# Altium footprint library LD_EDFA.PcbLib: 280 footprints (part 7 of 18)
Each footprint in its own frame and in the unit in brackets; x right, y up, seen from the top. Pads: shape width x height; smd on the part's side, far side on the other; paste and mask are expansions set on the pad; w line width, h text height; cw(c..) or ccw(c..) is an arc to the next point about the centre after c.
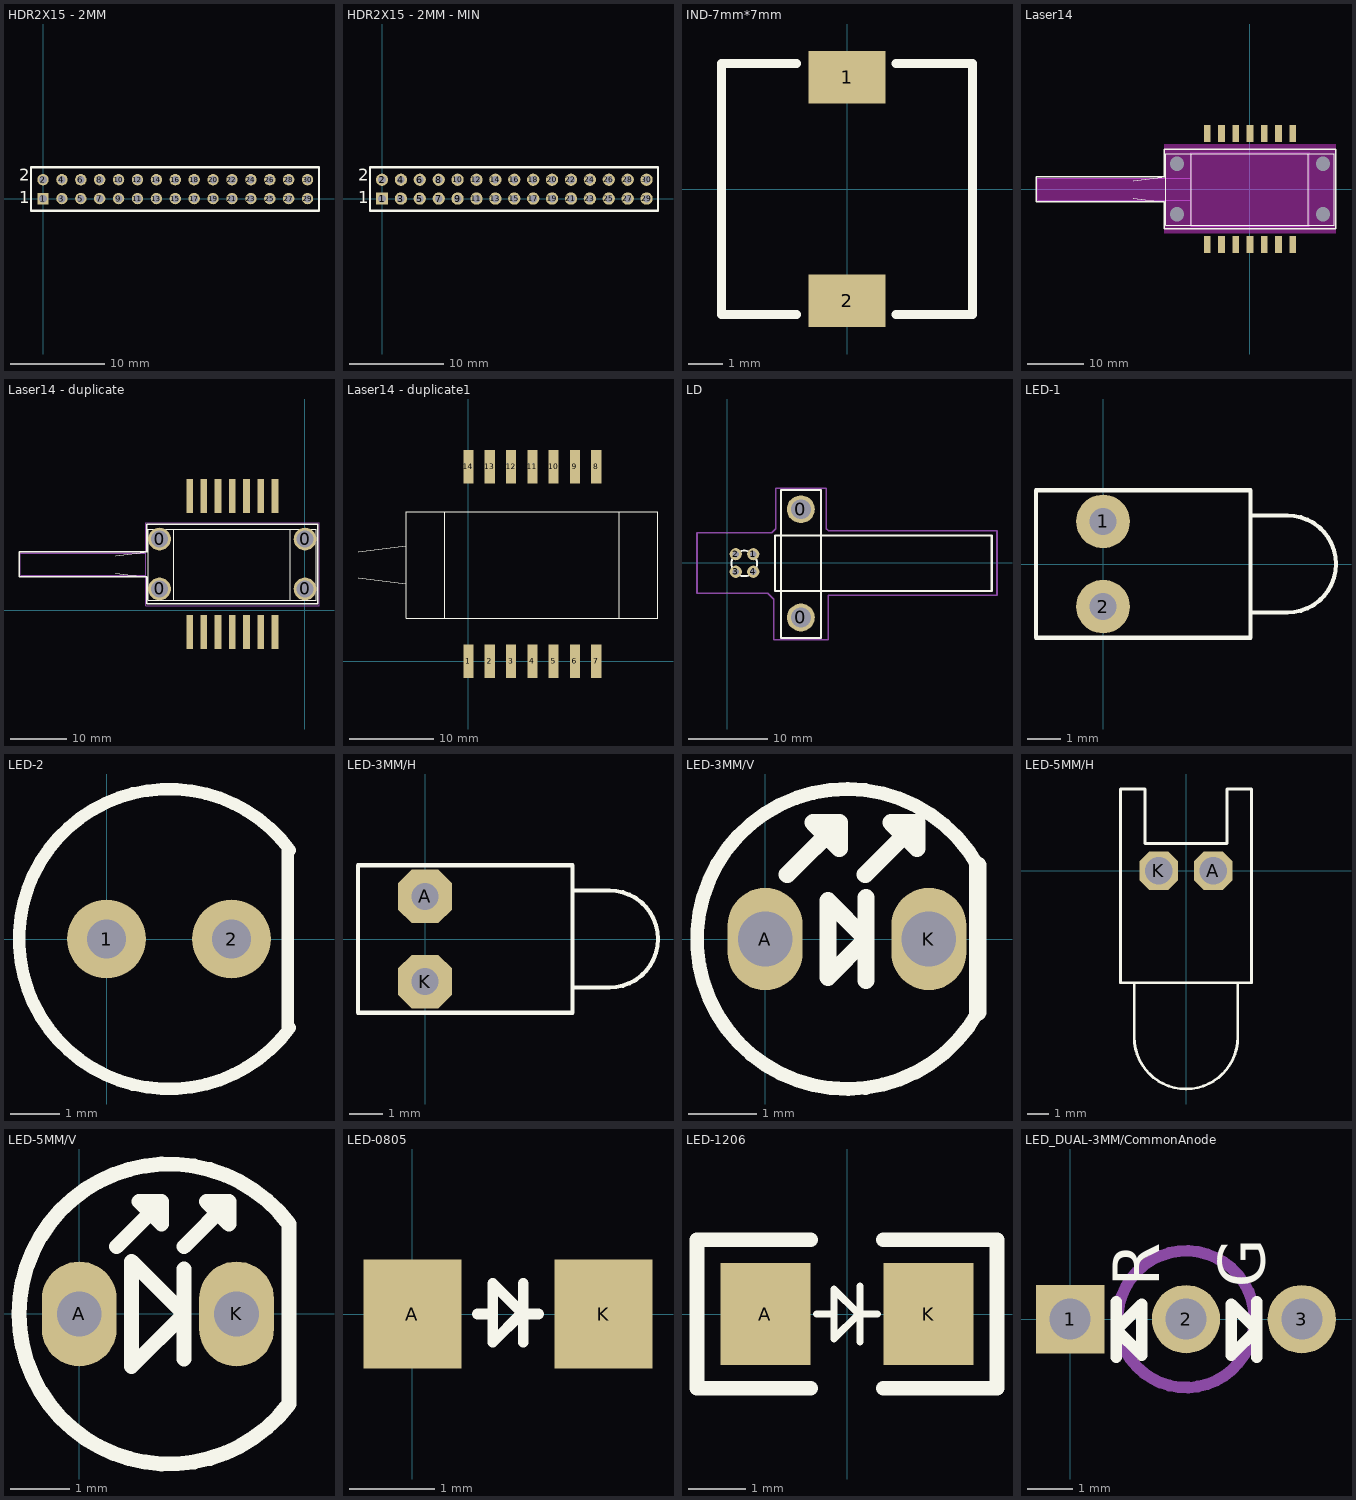
[diagram p6: the footprints below, top view; thin cyan lines are the x and y axes]

## HDR2X15 - 2MM [mm]
pads (30):
  rect 1.2x1.2 hole 0.8: 1(0,0)
  round 1.2 hole 0.8: 2(0,2) 3(2,0) 4(2,2) 5(4,0) 6(4,2) 7(6,0) 8(6,2) 9(8,0) 10(8,2) 11(10,0) 12(10,2) 13(12,0) 14(12,2) 15(14,0) 16(14,2) 17(16,0) 18(16,2) 19(18,0) 20(18,2) 21(20,0) 22(20,2) 23(22,0) 24(22,2) 25(24,0) 26(24,2) 27(26,0) 28(26,2) 29(28,0) 30(28,2)
Top Overlay:
  lines w0.254: -1.27,-1.27 29.21,-1.27 29.21,3.302 -1.27,3.302 -1.27,-1.27
  text "2" at -2.54,1.905 h1.27
  text "1" at -2.54,-0.508 h1.27

## HDR2X15 - 2MM - MIN [mm]
pads (30):
  rect 1.3x1.3 hole 0.8: 1(0,0)
  round 1.3 hole 0.8: 2(0,2) 3(2,0) 4(2,2) 5(4,0) 6(4,2) 7(6,0) 8(6,2) 9(8,0) 10(8,2) 11(10,0) 12(10,2) 13(12,0) 14(12,2) 15(14,0) 16(14,2) 17(16,0) 18(16,2) 19(18,0) 20(18,2) 21(20,0) 22(20,2) 23(22,0) 24(22,2) 25(24,0) 26(24,2) 27(26,0) 28(26,2) 29(28,0) 30(28,2)
Top Overlay:
  lines w0.254: -1.27,-1.27 -1.27,3.302 29.21,3.302 29.21,-1.27 -1.27,-1.27
  text "1" at -2.54,-0.508 h1.27
  text "2" at -2.54,1.905 h1.27

## IND-7mm*7mm [mm] "7mm*7mm Inductor"
pads (2):
  rect 2.2x1.5 smd: 1(0,3.2) 2(0,-3.2)
Top Overlay:
  lines w0.254: -3.556,-3.556 -3.6,-3.6 ; -1.441,-3.6 -3.6,-3.6 ; -1.441,3.6 -3.6,3.6 -3.6,-3.6 ; 1.397,-3.6 3.6,-3.6 3.6,3.6 1.397,3.6

## Laser14 [mm] "Laser"
pads (18):
  round 0 hole 2.54: 0(-13,-4.5) 0(-13,4.5) 0(13,-4.5) 0(13,4.5)
  rect 1.2x3 smd: 1(-7.62,-9.906) 2(-5.08,-9.906) 3(-2.54,-9.906) 4(0,-9.906) 5(2.54,-9.906) 6(5.08,-9.906) 7(7.62,-9.906) 8(7.62,9.906) 9(5.08,9.906) 10(2.54,9.906) 11(0,9.906) 12(-2.54,9.906) 13(-5.08,9.906) 14(-7.62,9.906)
Top Overlay:
  lines w0: -20.785,-1.615 -15.02,-2.368 ; -20.785,1.433 -15.02,2.187 ; -10.42,-6.449 -10.42,6.251 ; 10.38,-6.449 10.38,6.251 ; -15.02,-6.449 14.98,-6.449 14.98,6.251 -15.02,6.251 -15.02,-6.449
  lines w0.254: -38.1,-2.286 -38.1,2.032 -38.1,2.159 -15.24,2.159 -15.24,7.112 15.24,7.112 15.24,-7.112 -15.24,-7.112 -15.24,-2.286 -38.1,-2.286
Keep-Out Layer:
  board cut-out: -15.24,-7.899 15.316,-7.899 15.316,7.976 -15.291,7.976 -15.291,1.905 -37.846,1.905 -37.846,-2.032 -15.24,-2.032
  region: -15.24,-7.899 15.316,-7.899 15.316,7.976 -15.291,7.976 -15.291,1.905 -37.846,1.905 -37.846,-2.032 -15.24,-2.032
Mechanical 13:
  lines w0.2: -37.846,-2.032 -37.846,1.905 -10.541,1.905 ; -37.827,-2.032 -10.541,-2.032 ; -10.541,-6.604 10.541,-6.604 10.541,6.477 -10.541,6.477 -10.541,-6.604

## Laser14 - duplicate [mil] "Laser"
pads (18):
  round 160 hole 120: 0(-1021.81,149.8) 0(-1021.81,500.2) 0(1.81,149.8) 0(1.81,500.2)
  rect 47.24x236.22 smd: 1(-810,-153) 2(-710,-153) 3(-610,-153) 4(-510,-153) 5(-410,-153) 6(-310,-153) 7(-210,-153) 8(-210,803) 9(-310,803) 10(-410,803) 11(-510,803) 12(-610,803) 13(-710,803) 14(-810,803)
Top Overlay:
  lines w0: -1328.31,261.43 -1101.34,231.77 ; -1328.31,381.43 -1101.34,411.09 ; -920.24,71.09 -920.24,571.09 ; -101.34,71.09 -101.34,571.09 ; -1101.34,71.09 -1101.34,571.09 79.76,571.09 79.76,71.09 -1101.34,71.09
  lines w10: -2010,235 -1110,235 -1110,45 90,45 90,605 -1110,605 -1110,410 -2010,410 -2010,405 -2010,235
Mechanical 1:
  lines w7.87: -2000,245 -2000,400 ; -1999.25,245 -1125,245 ; -1120,30 -1120,615 100,615 100,30 -1120,30
  lines w10: -1999.25,400 -1120,400

## Laser14 - duplicate1 [mm] "Laser"
pads (14):
  rect 1.2x3.984 smd: 1(0,0) 2(2.54,0) 3(5.08,0) 4(7.62,0) 5(10.16,0) 6(12.7,0) 7(15.24,0) 8(15.24,23.216) 9(12.7,23.216) 10(10.16,23.216) 11(7.62,23.216) 12(5.08,23.216) 13(2.54,23.216) 14(0,23.216)
Top Overlay:
  lines w0: -13.165,9.993 -7.4,9.24 ; -13.165,13.041 -7.4,13.795 ; -2.8,5.159 -2.8,17.859 ; 18,5.159 18,17.859 ; -7.4,5.159 -7.4,17.859 22.6,17.859 22.6,5.159 -7.4,5.159

## LD [mil] "Laser Diode with Pin"
height 210.24
pads (6):
  round 137.79 hole 98.42: 0(363.66,-269.57) 0(363.66,265.86)
  round 60 hole 30: 1(128.31,43.31) 2(41.69,43.31) 3(41.69,-43.31) 4(128.31,-43.31)
Top Overlay:
  circle w10: c84.05,-1.85 r62.99
  lines w10: 235.27,-139.65 235.27,135.94 1308,135.94 1308,-139.65 235.27,-139.65 ; 264.41,-370 264.41,360 464.41,360 464.41,-370 264.41,-370
Mechanical 15:
  lines w7.87: -150,-150 200,-150 230,-180 230,-380 500,-380 500,-160 1334,-160 1334,160 500,160 490,170 490,370 240,370 240,170 220,150 -150,150 -150,-150

## LED-1 [mm]
pads (2):
  round 1.6 hole 0.8: 1(0,1.27) 2(0,-1.27)
Top Overlay:
  lines w0.127: 4.4,-1.45 5.5,-1.45 ccw(c5.5,0) 5.5,1.45 4.4,1.45 ; -2,-2.2 4.4,-2.2 4.4,2.2 -2,2.2 -2,-2.2

## LED-2 [mil]
pads (2):
  round 63 hole 31.5: 1(0,0) 2(100,0)
Top Overlay:
  lines w10: 145,-70 145,70 ; 146.61,-71.18 cw(c50,0) 146.61,71.18

## LED-3MM/H [mm]
pads (2):
  oct 1.6x1.6 hole 0.8: A(0,1.27) K(0,-1.27)
Top Overlay:
  lines w0.127: 4.4,-1.45 5.5,-1.45 ccw(c5.5,0) 5.5,1.45 4.4,1.45 ; -2,-2.2 -2,2.2 4.4,2.2 4.4,-2.2 -2,-2.2

## LED-3MM/V [mm]
pads (2):
  oval 1.1x1.5 hole 0.8: A(0,0) K(2.4,0)
Top Overlay:
  lines w0.203: 3.116,1.082 ccw(c1.2,0) 3.119,-1.076
  lines w0.254: 0.322,0.946 1.084,1.708 ; 1.465,0.946 2.227,1.708 ; 1.479,-0.61 1.479,0.61 ; 3.116,-1.073 3.116,1.082 ; 1.084,1.708 1.084,1.327 0.703,1.708 1.084,1.708 ; 2.227,1.708 1.846,1.708 2.227,1.327 2.227,1.708 ; 0.921,-0.559 0.921,0.559 1.479,0 0.921,-0.559

## LED-5MM/H [mil]
pads (2):
  oct 70x70 hole 50: A(50,0) K(-50,0)
Top Overlay:
  lines w5: -95,-205 -95,-305 ccw(c0,-305) 95,-305 95,-205 ; -120,-205 120,-205 120,150 75,150 75,50 -75,50 -75,150 -120,150 -120,-205

## LED-5MM/V [mil]
pads (2):
  oval 50x70 hole 30: A(0,0) K(105,0)
Top Overlay:
  lines w10: 25,45 55,75 ; 70,-30 70,30 ; 70,45 100,75 ; 55,75 55,60 40,75 55,75 ; 100,75 100,60 85,75 100,75 ; 35,-35 35,35 70,0 35,-35 ; 140,-60.15 cw(c59.9,-0.07) 140,60 140,-60.15

## LED-0805 [mil]
pads (2):
  rect 45x50 smd: A(0,0) K(88,0)
Top Overlay:
  lines w5: 30,0 36,0 ; 50,0 37,-13 37,14 51,0 58,0 ; 51,-13 51,14

## LED-1206 [mil]
pads (2):
  rect 62x70 smd: A(-56,0) K(56,0)
Top Overlay:
  lines w5: -21,0 -9,0 ; 9,-19 9,19 ; 9,0 21,0 ; -9,-17 -9,17 8,0 -9,-17
  lines w10: -25,-51 -103,-51 -103,51 -25,51 ; 25,-51 103,-51 103,51 25,51

## LED_DUAL-3MM/CommonAnode [mm] "Common Anode 3mm LED in Red and Green"
pads (3):
  rect 1.5x1.5 hole 0.9: 1(0,0)
  round 1.5 hole 0.9: 2(2.54,0) 3(5.08,0)
Top Overlay:
  lines w0.254: 1.01,-0.838 1.01,0.381 ; 4.096,-0.838 4.096,0.381 ; 1.01,-0.229 1.569,-0.787 1.569,0.33 1.01,-0.229 ; 3.537,-0.787 3.537,0.33 4.096,-0.229 3.537,-0.787
  text "G" at 4.267,0.686 h1.02
  text "R" at 1.956,0.711 h1.02
Mechanical 13:
  circle w0.254: c2.54,0 r1.5